# EAGLE library part CON-0002 (library wolff-den)
CONN TAG CONNECT PROG
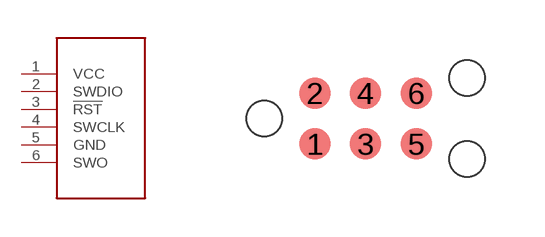
[diagram p0: symbol with the pads of TC2030-MCP-NL; footprint TC2030-MCP-NL]

Designator prefix J

## CON-0002 (DESC: TC2030-MCP-NL; MPN: TC2030-MCP-NL)  [TC2030-MCP-NL]
1  VCC
2  SWDIO
3  !RST
4  SWCLK
5  GND
6  SWO

## Footprint TC2030-MCP-NL (pad centres in mm)
TAG-CONNECT ICSP Connector Manufacturer: Tag-Connect <www.tag-connect.com> Cable for easy In-Circuit Serial Programming. Designed for Microchip ICD2, suitable for many others. PAD Description 1 MCLR/Vpp 2 Vdd 3 GND 4 PGD (ISPDAT) 5 PGC (ISPCLK) 6 nc (used for LVP) ©2009 ROFA.cz - modified and updated by Robert Darlington ‹rdarlington@gmail.com›
smd 0.787 x 0.787: 1 1.27,-0.635; 2 1.27,0.635; 3 2.54,-0.635; 4 2.54,0.635; 5 3.81,-0.635; 6 3.81,0.635
hole 0.889 at 0,0
hole 0.889 at 5.08,-1.016
hole 0.889 at 5.08,1.016